# Altium footprint library XB24-Z7WIT-004.PcbLib: 1 footprints
Each footprint in its own frame and in the unit in brackets; x right, y up, seen from the top. Pads: shape width x height; smd on the part's side, far side on the other; paste and mask are expansions set on the pad; w line width, h text height; cw(c..) or ccw(c..) is an arc to the next point about the centre after c.
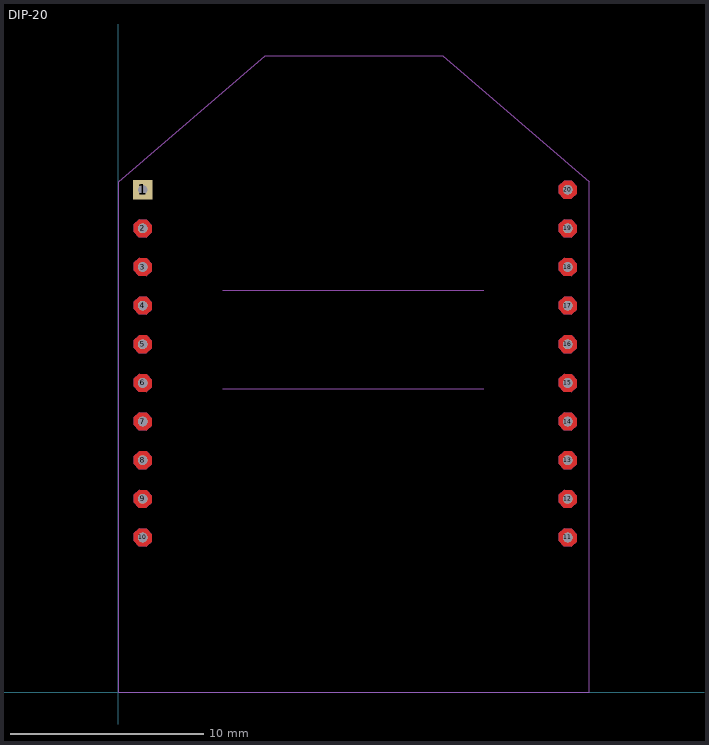
[diagram p0: the footprint, top view; thin cyan lines are the x and y axes]

## DIP-20 [mm]
pads (20):
  rect 1.008x1.008 hole 0.5 mask-25.4: 1(1.254,26.009)
  round 0.5 hole 0.5 mask-25.4: 2(1.254,24.009) 3(1.254,22.009) 4(1.254,20.009) 5(1.254,18.009) 6(1.254,16.009) 7(1.254,14.009) 8(1.254,12.009) 9(1.254,10.009) 10(1.254,8.009) 11(23.254,8.009) 12(23.254,10.009) 13(23.254,12.009) 14(23.254,14.009) 15(23.254,16.009) 16(23.254,18.009) 17(23.254,20.009) 18(23.254,22.009) 19(23.254,24.009) 20(23.254,26.009)
Top Layer:
  region: 23.728,8.181 23.467,8.466 23.082,8.483 22.797,8.222 22.78,7.837 23.041,7.552 23.426,7.535 23.711,7.796
  region: 23.728,10.181 23.467,10.466 23.082,10.483 22.797,10.222 22.78,9.837 23.041,9.552 23.426,9.535 23.711,9.796
  region: 23.728,12.181 23.467,12.466 23.082,12.483 22.797,12.222 22.78,11.837 23.041,11.552 23.426,11.535 23.711,11.796
  region: 23.728,14.181 23.467,14.466 23.082,14.483 22.797,14.222 22.78,13.837 23.041,13.552 23.426,13.535 23.711,13.796
  region: 23.728,16.181 23.467,16.466 23.082,16.483 22.797,16.222 22.78,15.837 23.041,15.552 23.426,15.535 23.711,15.796
  region: 23.728,18.181 23.467,18.466 23.082,18.483 22.797,18.222 22.78,17.837 23.041,17.552 23.426,17.535 23.711,17.796
  region: 23.728,20.181 23.467,20.466 23.082,20.483 22.797,20.222 22.78,19.837 23.041,19.552 23.426,19.535 23.711,19.796
  region: 23.728,22.181 23.467,22.466 23.082,22.483 22.797,22.222 22.78,21.837 23.041,21.552 23.426,21.535 23.711,21.796
  region: 23.728,24.181 23.467,24.466 23.082,24.483 22.797,24.222 22.78,23.837 23.041,23.552 23.426,23.535 23.711,23.796
  region: 23.728,26.181 23.467,26.466 23.082,26.483 22.797,26.222 22.78,25.837 23.041,25.552 23.426,25.535 23.711,25.796
  region: 1.728,8.181 1.467,8.466 1.082,8.483 0.797,8.222 0.78,7.837 1.041,7.552 1.426,7.535 1.711,7.796
  region: 1.728,10.181 1.467,10.466 1.082,10.483 0.797,10.222 0.78,9.837 1.041,9.552 1.426,9.535 1.711,9.796
  region: 1.728,12.181 1.467,12.466 1.082,12.483 0.797,12.222 0.78,11.837 1.041,11.552 1.426,11.535 1.711,11.796
  region: 1.728,14.181 1.467,14.466 1.082,14.483 0.797,14.222 0.78,13.837 1.041,13.552 1.426,13.535 1.711,13.796
  region: 1.728,16.181 1.467,16.466 1.082,16.483 0.797,16.222 0.78,15.837 1.041,15.552 1.426,15.535 1.711,15.796
  region: 1.728,18.181 1.467,18.466 1.082,18.483 0.797,18.222 0.78,17.837 1.041,17.552 1.426,17.535 1.711,17.796
  region: 1.728,20.181 1.467,20.466 1.082,20.483 0.797,20.222 0.78,19.837 1.041,19.552 1.426,19.535 1.711,19.796
  region: 1.728,22.181 1.467,22.466 1.082,22.483 0.797,22.222 0.78,21.837 1.041,21.552 1.426,21.535 1.711,21.796
  region: 1.728,24.181 1.467,24.466 1.082,24.483 0.797,24.222 0.78,23.837 1.041,23.552 1.426,23.535 1.711,23.796
Bottom Layer:
  region: 23.728,8.181 23.467,8.466 23.082,8.483 22.797,8.222 22.78,7.837 23.041,7.552 23.426,7.535 23.711,7.796
  region: 23.728,10.181 23.467,10.466 23.082,10.483 22.797,10.222 22.78,9.837 23.041,9.552 23.426,9.535 23.711,9.796
  region: 23.728,12.181 23.467,12.466 23.082,12.483 22.797,12.222 22.78,11.837 23.041,11.552 23.426,11.535 23.711,11.796
  region: 23.728,14.181 23.467,14.466 23.082,14.483 22.797,14.222 22.78,13.837 23.041,13.552 23.426,13.535 23.711,13.796
  region: 23.728,16.181 23.467,16.466 23.082,16.483 22.797,16.222 22.78,15.837 23.041,15.552 23.426,15.535 23.711,15.796
  region: 23.728,18.181 23.467,18.466 23.082,18.483 22.797,18.222 22.78,17.837 23.041,17.552 23.426,17.535 23.711,17.796
  region: 23.728,20.181 23.467,20.466 23.082,20.483 22.797,20.222 22.78,19.837 23.041,19.552 23.426,19.535 23.711,19.796
  region: 23.728,22.181 23.467,22.466 23.082,22.483 22.797,22.222 22.78,21.837 23.041,21.552 23.426,21.535 23.711,21.796
  region: 23.728,24.181 23.467,24.466 23.082,24.483 22.797,24.222 22.78,23.837 23.041,23.552 23.426,23.535 23.711,23.796
  region: 23.728,26.181 23.467,26.466 23.082,26.483 22.797,26.222 22.78,25.837 23.041,25.552 23.426,25.535 23.711,25.796
  region: 1.728,8.181 1.467,8.466 1.082,8.483 0.797,8.222 0.78,7.837 1.041,7.552 1.426,7.535 1.711,7.796
  region: 1.728,10.181 1.467,10.466 1.082,10.483 0.797,10.222 0.78,9.837 1.041,9.552 1.426,9.535 1.711,9.796
  region: 1.728,12.181 1.467,12.466 1.082,12.483 0.797,12.222 0.78,11.837 1.041,11.552 1.426,11.535 1.711,11.796
  region: 1.728,14.181 1.467,14.466 1.082,14.483 0.797,14.222 0.78,13.837 1.041,13.552 1.426,13.535 1.711,13.796
  region: 1.728,16.181 1.467,16.466 1.082,16.483 0.797,16.222 0.78,15.837 1.041,15.552 1.426,15.535 1.711,15.796
  region: 1.728,18.181 1.467,18.466 1.082,18.483 0.797,18.222 0.78,17.837 1.041,17.552 1.426,17.535 1.711,17.796
  region: 1.728,20.181 1.467,20.466 1.082,20.483 0.797,20.222 0.78,19.837 1.041,19.552 1.426,19.535 1.711,19.796
  region: 1.728,22.181 1.467,22.466 1.082,22.483 0.797,22.222 0.78,21.837 1.041,21.552 1.426,21.535 1.711,21.796
  region: 1.728,24.181 1.467,24.466 1.082,24.483 0.797,24.222 0.78,23.837 1.041,23.552 1.426,23.535 1.711,23.796
Top Solder:
  drawing of 20 lines, arcs and shapes, not listed
Bottom Solder:
  drawing of 20 lines, arcs and shapes, not listed
Mechanical 1:
  lines w0: 5.4,15.7 18.9,15.7 ; 5.4,20.8 18.9,20.8 ; 0.002,0.001 24.381,0.001 24.381,26.411 16.791,32.941 7.593,32.941 0.002,26.41 0.002,0.001
Multi-Layer:
  drawing of 19 lines, arcs and shapes, not listed